# Altium schematic symbol library Diode_TVS_Sch.SchLib: 7 symbols
Pins are listed as number, name and electrical type; pins without a type are passive.

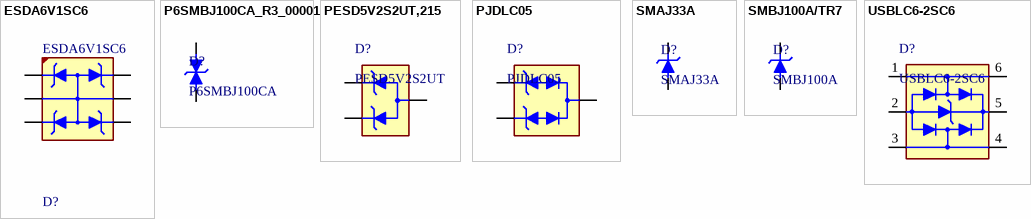
[diagram p0: symbols ESDA6V1SC6 to USBLC6-2SC6]

## ESDA6V1SC6
designator D?
TVS DIODE 5.25V SOT23-6; Manufacturer: STMicroelectronics; Standoff Height: 0mm; Clamping Voltage: 19V; Peak Pulse Power: 300W; Peak Pulse Current: 18A; Direction: Unidirectional; Number Of Channels: 4; Max Junction Temp: +150°C; Value: 190pF; Breakdown Voltage: 6.1V; ComponentLink2Description: Datasheet; Octopart: https://octopart.com/esda6v1sc6-stmicroelectronics-347722; Manufacturer Part Number: ESDA6V1SC6; Temperature Range Low: -55°C; Mouser Description: TVS Diodes / ESD Suppressors 6.1V 400W Unidirect; Device Class L3: unset; Reverse Standoff Voltage: 5.25V; Temperature Range High: +150°C; Category: Diode; Lead Free: Yes; Digikey Description: TVS DIODE 5.25V SOT23-6; ComponentLink2URL: https://www.st.com/content/ccc/resource/technical/document/datasheet/7f/2e/1d/82/74/9c/4b/a1/CD00002055.pdf/files/CD00002055.pdf/jcr:content/translations/en.CD00002055.pdf; RoHS: TRUE; Device Class L1: Circuit Protection; Temperature: -55°C to +150°C; Package: SOT23-6L; Automotive: No; Capacitance: 190pF; Height: 1.45mm; Device Class L2: TVS Diodes
footprint SOT23-6L-IPC_A
footprint SOT23-6L-IPC_B
footprint SOT23-6L-IPC_C
footprint SOT23-6L-MFG
pins: 1, 2, 3, 4, 5, 6

## P6SMBJ100CA_R3_00001
designator D?, comment P6SMBJ100CA
DIODE TVS 600W 100V DO214AA (SMB) SMT; Direction: BI; Voltage: 100V; Current: *; Power: 600W; Package: DO214AA (SMB); ComponentLink1Description: New link; ComponentLink1URL: https://ozdisan.com/power-semiconductors/diodes-diode-modules-and-rectifiers/tvs-diodes/P6SMBJ100CAR300001/568470
footprint DO214AA SMB - BIDIRECTIONAL (Molded Diode, 2-Leads, Body 4.31x3.62mm, IPC Medium Density)
pins: 1 C, 2 C

## PESD5V2S2UT,215
designator D?, comment PESD5V2S2UT
DIODE TVS 260W 5V SOT23 NXP; Voltage: 5V; Power: 260W; Package: SOT-23; ComponentLink1Description: Link; ComponentLink1URL: https://ozdisan.com/power-semiconductors/diodes-diode-modules-and-rectifiers/tvs-diodes/PESD5V2S2UT215/454970
footprint SOT-23-3 (SOT23, 3-Leads, Body 2.90x2.40mm, Pitch 0.95mm, IPC Medium Density)
pins: 1 C1, 2 C2, 3 GND

## PJDLC05
designator D?
Voltage: 5V; Power: 400W; Package: SOT-23; ComponentLink1Description: Link; ComponentLink1URL: https://ozdisan.com/guc-yari-iletkenleri/diyotlar-modul-diyotlar-ve-dogrultucular/tvs-diyotlar/PJDLC05R100001/472126
footprint SOT-23-3 (SOT23, 3-Leads, Body 2.90x2.40mm, Pitch 0.95mm, IPC Medium Density)
pins: 1 C1, 2 C2, 3 GND

## SMAJ33A
designator D?
DIODE TVS 400W 33V DO214AC (SMA) SMT; Direction: UNI; Voltage: 33V; Current: *; Power: 400W; Package: DO214AC (SMA); ComponentLink1Description: Link
footprint DO214AC SMA (Molded Diode, 2-Leads, Body 4.30x2.60mm, IPC Medium Density)
pins: 1 C, 2 A

## SMBJ100A/TR7
designator D?, comment SMBJ100A
DIODE TVS 600W 100V DO214AA (SMB) SMT; Direction: UNI; Voltage: 100V; Current: *; Power: 600W; Package: DO214AA (SMB); ComponentLink1Description: New link
footprint DO214AA SMB (Molded Diode, 2-Leads, Body 4.31x3.62mm, IPC Medium Density)
pins: 1 C, 2 A

## USBLC6-2SC6
designator D?
USBLC6 Series 2 Line 6 V Uni / Bi-Directional ESD Protection - SOT-23-6; Manufacturer: STMicroelectronics; Reverse Standoff Voltage: 5.25V; Min Breakdown Voltage: 6V; Power Line Protection: Yes; Peak Pulse Current: 5A; Value: 3.5pF; Clamping Voltage: 17V; Leakage Current: 150nA; Operating Supply Voltage: 1.1V; Number of Channels: 2; Working Voltage: 5V; Test Current: 1mA; Number of Elements: 1; Polarity: Unidirectional,Bidirectional; Data Rate: 480Mbps; Package: DO214AA (SMB); ComponentLink1Description: Link; ComponentLink1URL: https://ozdisan.com/power-semiconductors/diodes-diode-modules-and-rectifiers/tvs-diodes/SMBJ100ATR7/977761; Supplier: Mouser; Supplier Part Number: 511-USBLC6-2SC6; Manufacturer Part Number: USBLC6-2SC6; RoHS: Yes; Category: TVS Diodes; Mounting Technology: Surface Mount; Case/Package: SOT-23; Pins: 6; Min Operating Temperature: -40°C; Max Operating Temperature: 125°C; Packaging: Tape and Reel; Series: USB; Breakdown Voltage: 6V; Package Quantity: 3000; Termination: SMD/SMT; Number of Bidirectional Channels: 2; ESD Protection: Yes; Max Reverse Leakage Current: 150nA; Reverse Breakdown Voltage: 6V; Max Breakdown Voltage: 6V; Clamping Voltage-Max: 17V; Length: 3.05mm; Width: 1.75mm; Height: 1.3mm; Depth: 1.75mm; Radiation Hardening: No; RoHS Compliant: Yes; Lead Free: Lead Free; Reach SVHC Compliant: No; ComponentLink2URL: https://www.distrelec.biz/Web/Downloads/_t/ds/USBLC6-2_ST_eng_tds.pdf?mime=application%2Fpdf&src-supplier=Distrelec; ComponentLink2Description: https://www.distrelec.biz/Web/Downloads/_t/ds/USBLC6-2_ST_eng_tds.pdf?mime=application%2Fpdf&src-supplier=Distrelec
footprint SOT23-6L-MFG
footprint SOT23-6L-IPC_C
footprint SOT23-6L-IPC_B
footprint SOT23-6L-IPC_A
pins: 1 I/O1, 2 GND, 3 I/O2, 4 I/O2, 5 VBUS, 6 I/O1